# Altium schematic symbol library SPX3819.SchLib: 1 symbol
Pins are listed as number, name and electrical type; pins without a type are passive.

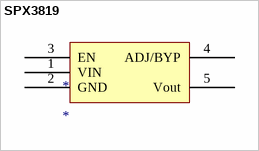
[diagram p0: symbol SPX3819]

## SPX3819
designator *
footprint SOT23-5AL-withhole (SOT23, 5-Leads, Body 2.9x1.6mm, Pitch 0.95mm, Lead Span 2.8mm, IPC High Density)
pins: 1 VIN, 2 GND, 3 EN, 4 ADJ/BYP, 5 Vout